# Altium schematic symbol library Microchip.SchLib: 2 symbols
Pins are listed as number, name and electrical type; pins without a type are passive.

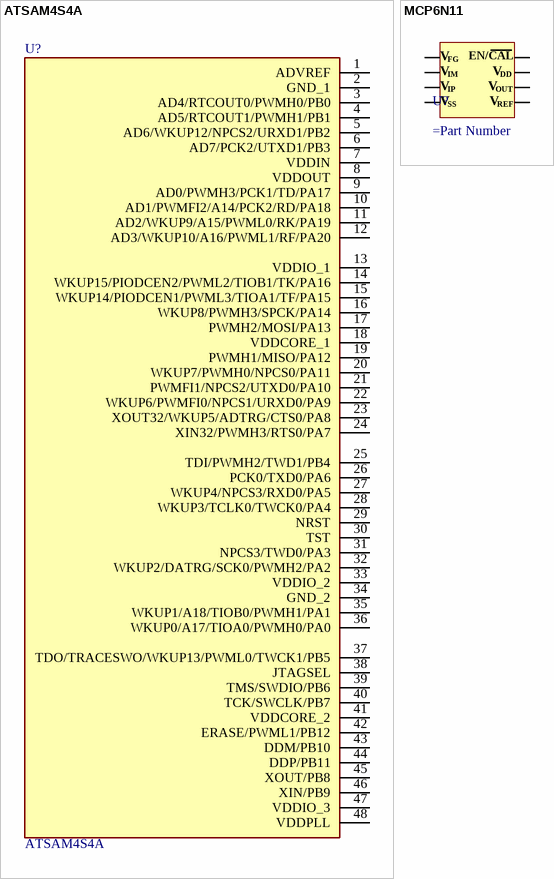
[diagram p0: symbols ATSAM4S4A to MCP6N11]

## ATSAM4S4A
designator U?
pins: 1 ADVREF, 2 GND_1, 3 AD4/RTCOUT0/PWMH0/PB0, 4 AD5/RTCOUT1/PWMH1/PB1, 5 AD6/WKUP12/NPCS2/URXD1/PB2, 6 AD7/PCK2/UTXD1/PB3, 7 VDDIN, 8 VDDOUT, 9 AD0/PWMH3/PCK1/TD/PA17, 10 AD1/PWMFI2/A14/PCK2/RD/PA18, 11 AD2/WKUP9/A15/PWML0/RK/PA19, 12 AD3/WKUP10/A16/PWML1/RF/PA20, 13 VDDIO_1, 14 WKUP15/PIODCEN2/PWML2/TIOB1/TK/PA16, 15 WKUP14/PIODCEN1/PWML3/TIOA1/TF/PA15, 16 WKUP8/PWMH3/SPCK/PA14, 17 PWMH2/MOSI/PA13, 18 VDDCORE_1, 19 PWMH1/MISO/PA12, 20 WKUP7/PWMH0/NPCS0/PA11, 21 PWMFI1/NPCS2/UTXD0/PA10, 22 WKUP6/PWMFI0/NPCS1/URXD0/PA9, 23 XOUT32/WKUP5/ADTRG/CTS0/PA8, 24 XIN32/PWMH3/RTS0/PA7, 25 TDI/PWMH2/TWD1/PB4, 26 PCK0/TXD0/PA6, 27 WKUP4/NPCS3/RXD0/PA5, 28 WKUP3/TCLK0/TWCK0/PA4, 29 NRST, 30 TST, 31 NPCS3/TWD0/PA3, 32 WKUP2/DATRG/SCK0/PWMH2/PA2, 33 VDDIO_2, 34 GND_2, 35 WKUP1/A18/TIOB0/PWMH1/PA1, 36 WKUP0/A17/TIOA0/PWMH0/PA0, 37 TDO/TRACESWO/WKUP13/PWML0/TWCK1/PB5, 38 JTAGSEL, 39 TMS/SWDIO/PB6, 40 TCK/SWCLK/PB7, 41 VDDCORE_2, 42 ERASE/PWML1/PB12, 43 DDM/PB10, 44 DDP/PB11, 45 XOUT/PB8, 46 XIN/PB9, 47 VDDIO_3, 48 VDDPLL

## MCP6N11
designator U?
pins: 1, 2, 3, 4, 5, 6, 7, 8
text: V; FG; EN/CAL; IM; DD; IP; OUT; SS; REF